# EAGLE library part FTDI_SMD (library myFab)
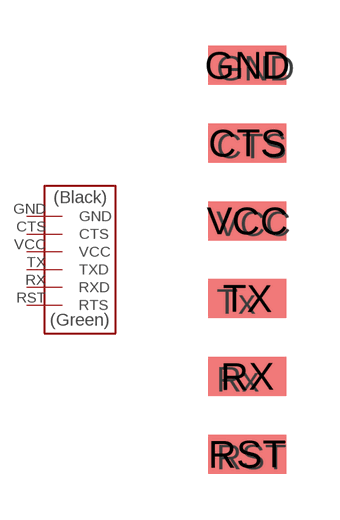
[diagram p11: symbol with the pads of FTDI_SMD; footprint FTDI_SMD]

Designator prefix -

## FTDI_SMD  [FTDI_SMD]
CTS  CTS
GND  GND
RST  RTS
RX  RXD
TX  TXD
VCC  VCC

## Footprint FTDI_SMD (pad centres in mm)
smd 2.54 x 1.27: CTS 0,3.81; GND 0,6.35; RST 0,-6.35; RX 0,-3.81; TX 0,-1.27; VCC 0,1.27